# Altium schematic symbol library ADC1247.SchLib: 1 symbol
Pins are listed as number, name and electrical type; pins without a type are passive.

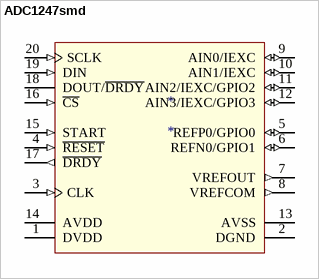
[diagram p0: symbol ADC1247smd]

## ADC1247smd
designator *
footprint Model Name (Footprint not found)
footprint TI-PW20_M (SOP, 20-Leads, Body 6.5x4.4mm, Pitch 0.65mm, IPC Low Density)
footprint TI-PW20_M (SOP, 20-Leads, Body 6.5x4.4mm, Pitch 0.65mm, IPC Low Density)
pins: 1 DVDD (power) "Digital power supply", 2 DGND (power) "Digital ground", 3 CLK (in) "External clock input. Tie this pin to DGND to activate the internal oscillator.", 4 ~{RESET} (in) "Chip reset (active low). Returns all register values to reset values.", 5 REFP0/GPIO0 (io), 6 REFN0/GPIO1 (io), 7 VREFOUT (out) "Positive internal reference voltage output", 8 VREFCOM (out) "Negative internal reference voltage output. Connect this pin to AVSS when using a unipolar supply, or to the midvoltage of the power supply when using a bipolar supply.", 9 AIN0/IEXC (io), 10 AIN1/IEXC (io), 11 AIN2/IEXC/GPIO2 (io), 12 AIN3/IEXC/GPIO3 (io), 13 AVSS (power) "Negative analog power supply", 14 AVDD (power) "Positive analog power supply", 15 START (in) "Conversion start. See text for description of use.", 16 ~{CS} (in) "Chip select (active low)", 17 ~{DRDY} (out) "Data ready (active low)", 18 DOUT/~{DRDY} (hiz), 19 DIN (in) "Serial data input", 20 SCLK (in) "Serial clock input"